# EAGLE library part RFM95W-868S2 (library RFM95)
Mod Txrx Lora +20dbm 868mhz Smd
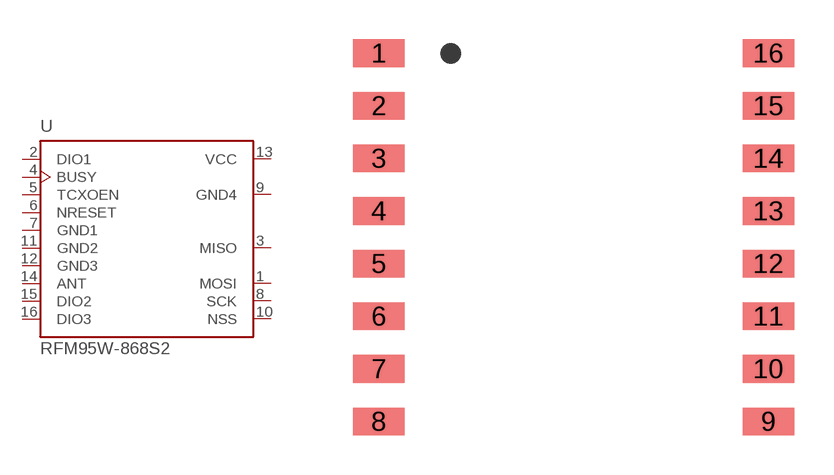
[diagram p0: symbol with the pads of XCVR_RFM95W-868S2; footprint XCVR_RFM95W-868S2]

Designator prefix U

## RFM95W-868S2 (AVAILABILITY: Unavailable; DESCRIPTION: General ISM < 1GHz LoRa™ Transceiver Module 868MHz Antenna Not Included Surface Mount; MF: RF; MP: RFM95W-868S2; PACKAGE: SMD-16 Hope Microelectronics; PRICE: None)  [XCVR_RFM95W-868S2]
1  MOSI
2  DIO1  in
3  MISO
4  BUSY  in
5  TCXOEN  in
6  NRESET
7  GND1  pwr
8  SCK
9  GND4  pwr
10  NSS
11  GND2  pwr
12  GND3  pwr
13  VCC  pwr
14  ANT
15  DIO2
16  DIO3

## Footprint XCVR_RFM95W-868S2 (pad centres in mm)
smd 1.95 x 1.05: 1 -7.4,7; 2 -7.4,5; 3 -7.4,3; 4 -7.4,1; 5 -7.4,-1; 6 -7.4,-3; 7 -7.4,-5; 8 -7.4,-7; 9 7.4,-7; 10 7.4,-5; 11 7.4,-3; 12 7.4,-1; 13 7.4,1; 14 7.4,3; 15 7.4,5; 16 7.4,7